# Altium footprint library CC2500.PcbLib: 1 footprints
Each footprint in its own frame and in the unit in brackets; x right, y up, seen from the top. Pads: shape width x height; smd on the part's side, far side on the other; paste and mask are expansions set on the pad; w line width, h text height; cw(c..) or ccw(c..) is an arc to the next point about the centre after c.
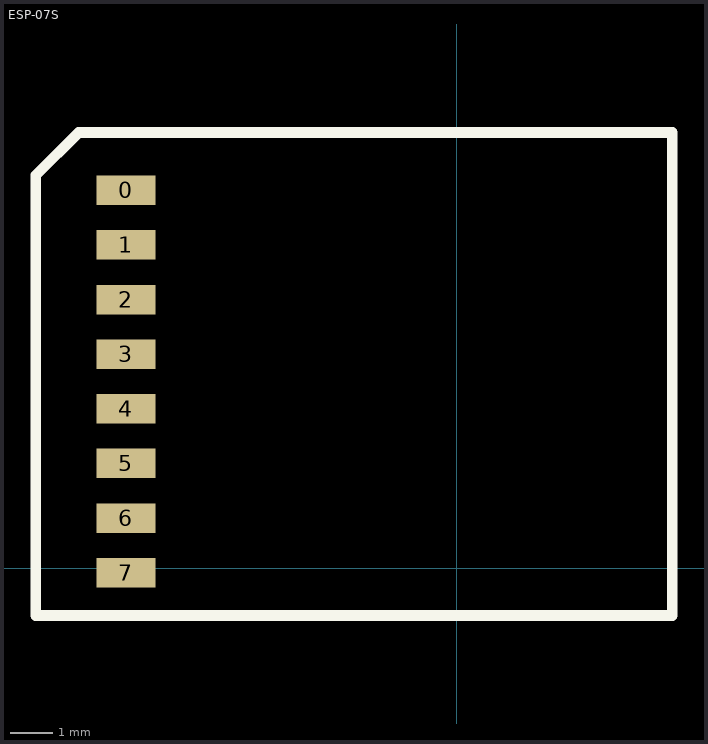
[diagram p0: the footprint, top view; thin cyan lines are the x and y axes]

## ESP-07S [mm]
pads (8):
  rect 1.4x0.7 smd: 0(-7.849,8.966) 1(-7.849,7.671) 2(-7.849,6.375) 3(-7.849,5.08) 4(-7.849,3.785) 5(-7.849,2.489) 6(-7.849,1.194) 7(-7.849,-0.102)
L26-Silk Screen Top (Multiple PADS layers...):
  lines w0.254: -9.982,-1.118 -9.982,9.322 -8.966,10.338 5.105,10.338 5.105,-1.118 -9.982,-1.118